# EAGLE library part AS-ITM-00133 (library tinycircuits)
DISPLAY 0.2" SGL 630NM RED SMD
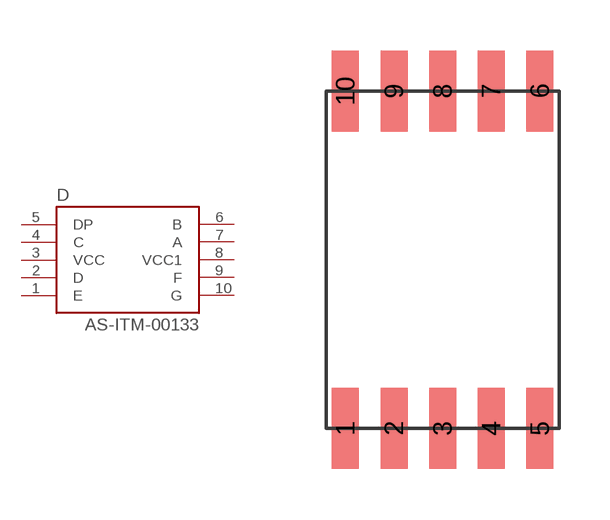
[diagram p55: symbol with the pads of ACSA02-41SURKWA-F01; footprint ACSA02-41SURKWA-F01]

Designator prefix D

## AS-ITM-00133 (PARTNO: AS-ITM-00133; VALUE: ACSA02-41SURKWA-F01)  [ACSA02-41SURKWA-F01]
1  E
2  D
3  VCC
4  C
5  DP
6  B
7  A
8  VCC1
9  F
10  G

## Footprint ACSA02-41SURKWA-F01 (pad centres in mm)
smd 0.8 x 2.4: 1 -2.88,-5; 2 -1.44,-5; 3 0,-5; 4 1.44,-5; 5 2.88,-5; 6 2.88,5; 7 1.44,5; 8 0,5; 9 -1.44,5; 10 -2.88,5